# Altium schematic symbol library SST39VF801C.SchLib: 1 symbol
Pins are listed as number, name and electrical type; pins without a type are passive.

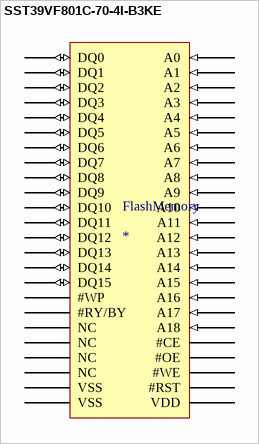
[diagram p0: symbol SST39VF801C-70-4I-B3KE]

## SST39VF801C-70-4I-B3KE
designator FlashMemory
footprint SST39VF801C-70-4I-B3KE (BGA, 48-Leads, Body 8,00x6,00mmx1,10mm, Pitch 0,80mm)
pins: A1 A3 (in), A2 A7 (in), A3 #RY/BY, A4 #WE, A5 A9 (in), A6 A13 (in), B1 A4 (in), B2 A17 (in), B3 #WP, B4 #RST, B5 A8 (in), B6 A12 (in), C1 A2 (in), C2 A6 (in), C3 A18 (in), C4 NC, C5 A10 (in), C6 A14 (in), D1 A1 (in), D2 A5 (in), D3 NC, D4 NC, D5 A11 (in), D6 A15 (in), E1 A0 (in), E2 DQ0 (io), E3 DQ2 (io), E4 DQ5 (io), E5 DQ7 (io), E6 A16 (in), F1 #CE, F2 DQ8 (io), F3 DQ10 (io), F4 DQ12 (io), F5 DQ14 (io), F6 NC, G1 #OE, G2 DQ9 (io), G3 DQ11 (io), G4 VDD, G5 DQ13 (io), G6 DQ15 (io), H1 VSS, H2 DQ1 (io), H3 DQ3 (io), H4 DQ4 (io), H5 DQ6 (io), H6 VSS